# Altium footprint library TE_5-534998-4.PcbLib: 1 footprints
Each footprint in its own frame and in the unit in brackets; x right, y up, seen from the top. Pads: shape width x height; smd on the part's side, far side on the other; paste and mask are expansions set on the pad; w line width, h text height; cw(c..) or ccw(c..) is an arc to the next point about the centre after c.
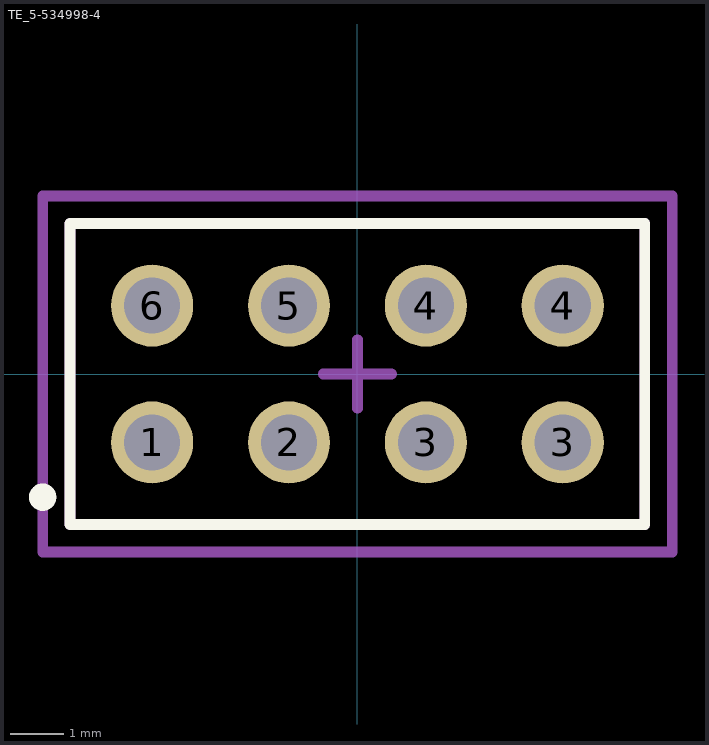
[diagram p0: the footprint, top view; thin cyan lines are the x and y axes]

## TE_5-534998-4 [mil]
pads (8):
  round 60 hole 41: 1(-150,-50) 2(-50,-50) 3(50,-50) 3(150,-50) 4(50,50) 4(150,50) 5(-50,50) 6(-150,50)
Top Overlay:
  circle w10: c-230,-90 r5
  lines w7.87: -210,-110 -210,110 210,110 210,-110 -210,-110
Mechanical 15:
  lines w7.87: -25,0 0,0 ; 0,-25 0,0 ; 0,25 0,0 ; 25,0 0,0 ; -230,-130 -230,130 230,130 230,-130 -230,-130
Mechanical 17:
  lines w7.87: -210,-110 210,-110 210,110 -210,110 -210,-110
  text ".Designator" at -210,-60 h60
Mechanical 19:
  lines w7.87: -210,-110 210,-110 210,110 -210,110 -210,-110
  text ".Comment" at -185,-75 h60
3D body: height 265, standoff -125, extent -199.99,-98.99 200.01,99